# Altium footprint library Ind1.PcbLib: 1 footprints
Each footprint in its own frame and in the unit in brackets; x right, y up, seen from the top. Pads: shape width x height; smd on the part's side, far side on the other; paste and mask are expansions set on the pad; w line width, h text height; cw(c..) or ccw(c..) is an arc to the next point about the centre after c.
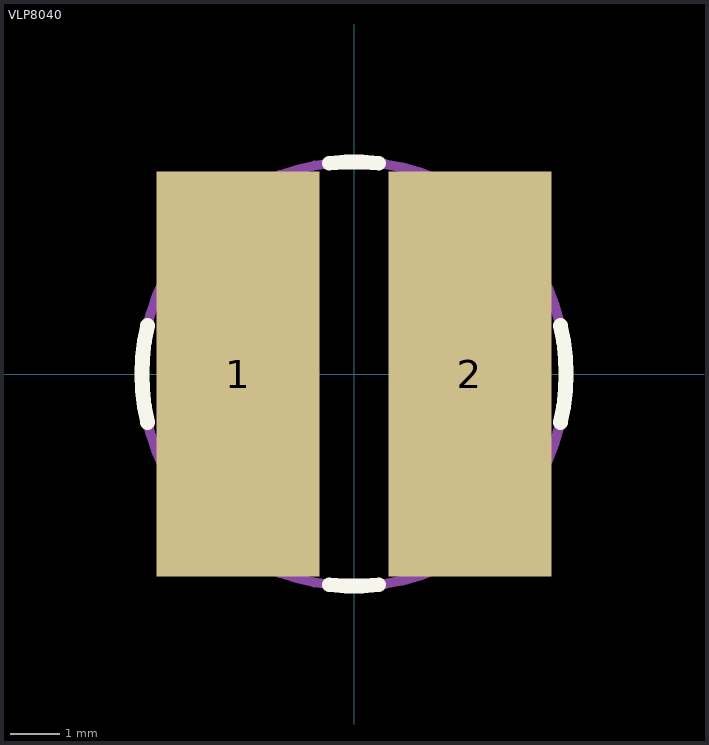
[diagram p0: the footprint, top view; thin cyan lines are the x and y axes]

## VLP8040 [mm] "Дроссель VLP8040"
pads (2):
  rect 3.3x8.2 smd: 1(-2.35,0) 2(2.35,0)
Top Overlay:
  lines w0.3: -4.186,-0.985 cw(c0,0) -4.186,0.985 ; -0.502,-4.271 ccw(c0,0) 0.502,-4.271 ; -0.502,4.271 cw(c0,0) 0.502,4.271 ; 4.186,-0.985 ccw(c0,0) 4.186,0.985
Mechanical 1:
  circle w0.2: c0,0 r4.3
  text ".Comment" at -3,-1 h1.5
  text ".Designator" at -3,0.25 h1.5
3D body: height 4, standoff 0, extent -4.266,-4.291 4.3,4.292